# Altium footprint library smartlock.PcbLib: 17 footprints (part 1 of 2)
Each footprint in its own frame and in the unit in brackets; x right, y up, seen from the top. Pads: shape width x height; smd on the part's side, far side on the other; paste and mask are expansions set on the pad; w line width, h text height; cw(c..) or ccw(c..) is an arc to the next point about the centre after c.
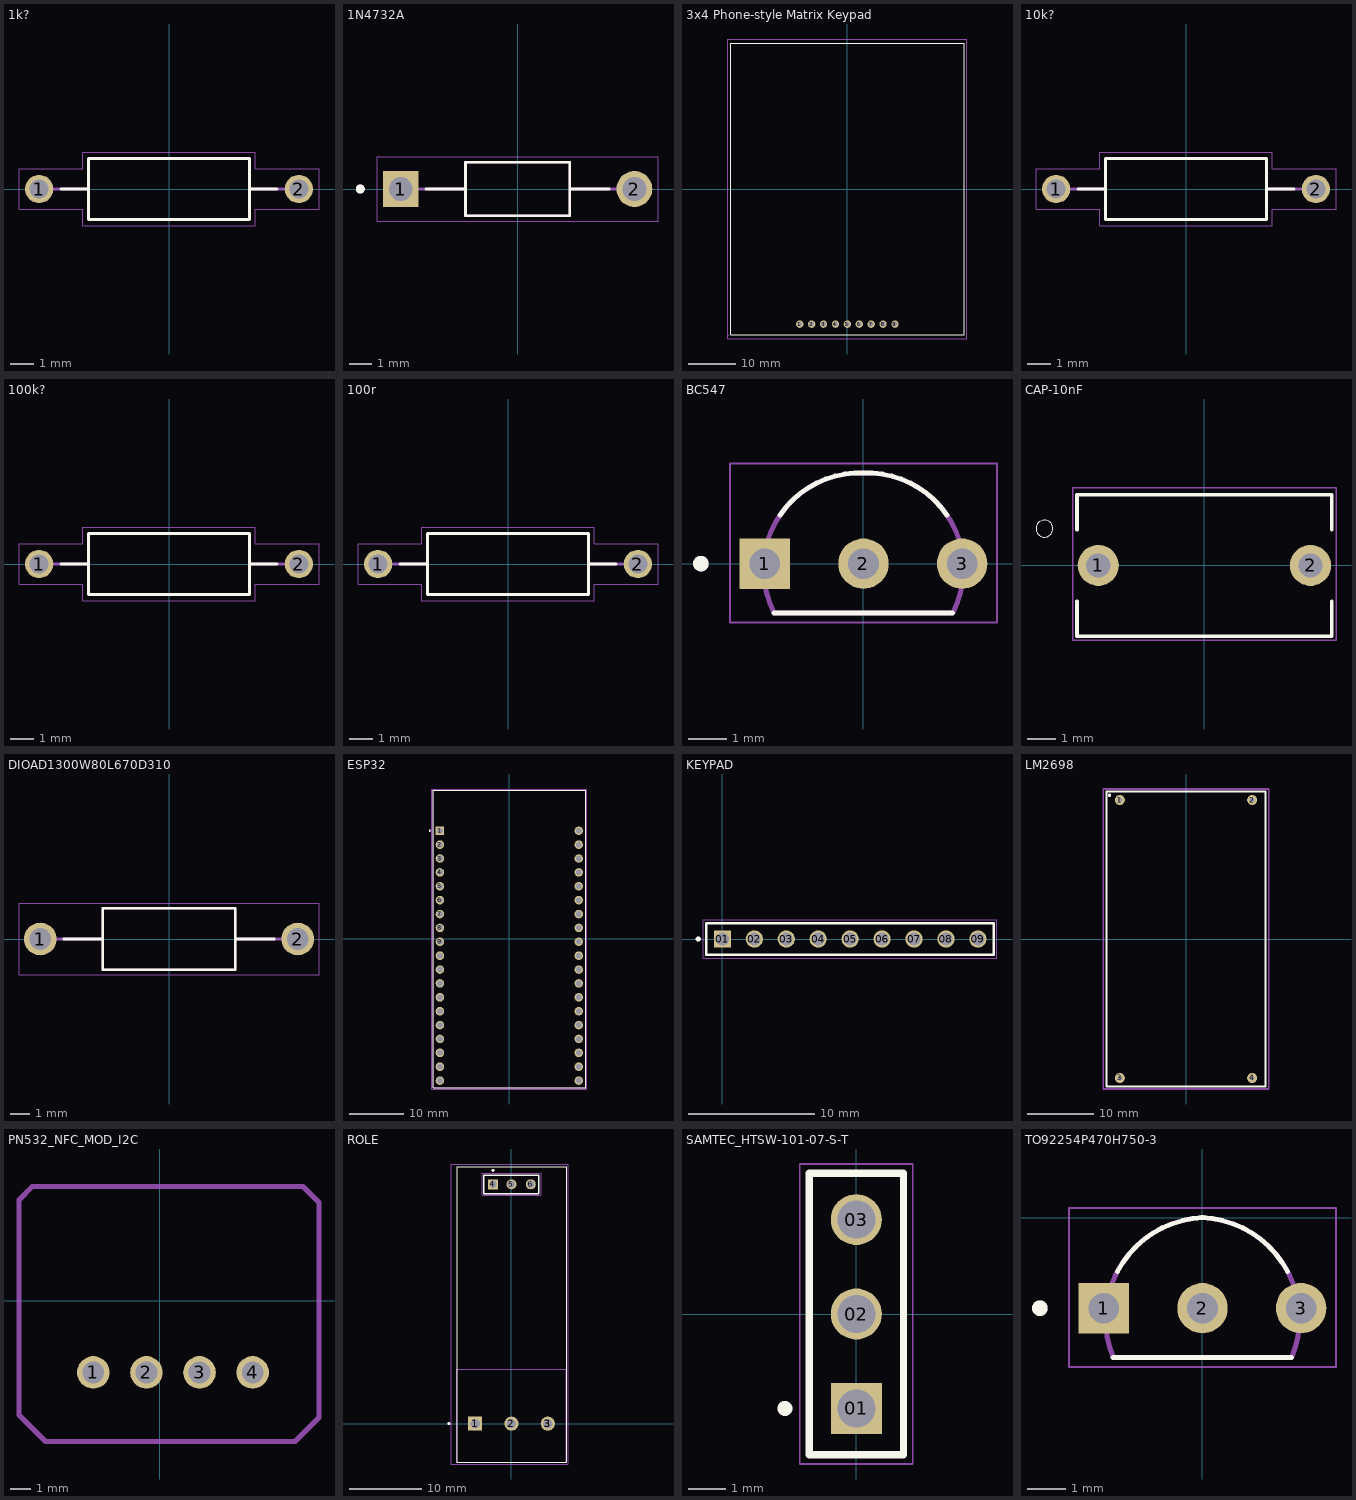
[diagram p0: the footprints below, top view; thin cyan lines are the x and y axes]

## 1k? [mm]
height 2.6
pads (2):
  round 1.2 hole 0.8: 1(-5.5,0) 2(5.5,0)
Top Overlay:
  lines w0.127: -4.58,0 -3.4,0 ; 4.58,0 3.4,0 ; -3.4,0 -3.4,-1.3 3.4,-1.3 3.4,0 ; -3.4,0 -3.4,1.3 3.4,1.3 3.4,0
Mechanical 13:
  lines w0.127: -4.9,0 -3.4,0 ; 4.9,0 3.4,0 ; -3.4,0 -3.4,-1.3 3.4,-1.3 3.4,0 ; -3.4,0 -3.4,1.3 3.4,1.3 3.4,0
Mechanical 15:
  lines w0.05: -6.35,-0.85 -6.35,0.85 -3.65,0.85 -3.65,1.55 3.65,1.55 3.65,0.85 6.35,0.85 6.35,-0.85 3.65,-0.85 3.65,-1.55 -3.65,-1.55 -3.65,-0.85 -6.35,-0.85
3D body "step_temp.STEP": height 2.4, standoff -26.95, extent -5.775,-1.2 5.775,1.2

## 1N4732A [mm] "Zener Diode 4.7 V 1 W ±5% Through Hole DO-41"
height 2.72
pads (2):
  rect 1.59x1.59 / inner round 1.59 / far side rect 1.59x1.59 hole 1.06: 1(-5.18,0)
  round 1.59 hole 1.06: 2(5.18,0)
Top Overlay:
  circle w0.2: c-6.975,0 r0.1
  lines w0.127: -4.065,0 -2.315,0 ; 4.065,0 2.315,0 ; -2.315,0 -2.315,-1.188 2.315,-1.188 2.315,0 ; -2.315,0 -2.315,1.188 2.315,1.188 2.315,0
Mechanical 13:
  circle w0.2: c-6.975,0 r0.1
  lines w0.127: -5.18,0 -2.315,0 ; 5.18,0 2.315,0 ; -2.315,0 -2.315,-1.188 2.315,-1.188 2.315,0 ; -2.315,0 -2.315,1.188 2.315,1.188 2.315,0
Mechanical 15:
  lines w0.05: -6.225,-1.438 -6.225,1.438 6.225,1.438 6.225,-1.438 -6.225,-1.438
3D body "step_temp.STEP": height 2.72, standoff -21.88, extent -5.288,-1.36 5.288,1.36

## 3x4 Phone-style Matrix Keypad [mm]
pads (9):
  round 1.56 hole 1.04: 1(-10.16,-28.829) 2(-7.62,-28.829) 3(-5.08,-28.829) 4(-2.54,-28.829) 5(0,-28.829) 6(2.54,-28.829) 7(5.08,-28.829) 8(7.62,-28.829) 9(10.16,-28.829)
Top Overlay:
  lines w0.254: -24.892,-31.115 24.892,-31.115 24.892,31.115 -24.892,31.115 -24.892,-31.115
Mechanical 15:
  lines w0.254: -25.654,-30.988 -25.4,-31.242 ; -25.5,-32 25.5,-32 25.5,32 -25.5,32 -25.5,-32
3D body "PCB Switch Matrix 3x4 v1.0.step": height 0.88, standoff -11.53, extent -26.949,-35.27 27.051,32.73

## 10k? [mm]
height 2.6
pads (2):
  round 1.2 hole 0.8: 1(-5.5,0) 2(5.5,0)
Top Overlay:
  lines w0.127: -4.58,0 -3.4,0 ; 4.58,0 3.4,0 ; -3.4,0 -3.4,-1.3 3.4,-1.3 3.4,0 ; -3.4,0 -3.4,1.3 3.4,1.3 3.4,0
Mechanical 13:
  lines w0.127: -4.9,0 -3.4,0 ; 4.9,0 3.4,0 ; -3.4,0 -3.4,-1.3 3.4,-1.3 3.4,0 ; -3.4,0 -3.4,1.3 3.4,1.3 3.4,0
Mechanical 15:
  lines w0.05: -6.35,-0.85 -6.35,0.85 -3.65,0.85 -3.65,1.55 3.65,1.55 3.65,0.85 6.35,0.85 6.35,-0.85 3.65,-0.85 3.65,-1.55 -3.65,-1.55 -3.65,-0.85 -6.35,-0.85
3D body "step_temp.STEP": height 2.4, standoff -26.95, extent -5.775,-1.2 5.775,1.2

## 100k? [mm]
height 2.6
pads (2):
  round 1.2 hole 0.8: 1(-5.5,0) 2(5.5,0)
Top Overlay:
  lines w0.127: -4.58,0 -3.4,0 ; 4.58,0 3.4,0 ; -3.4,0 -3.4,-1.3 3.4,-1.3 3.4,0 ; -3.4,0 -3.4,1.3 3.4,1.3 3.4,0
Mechanical 13:
  lines w0.127: -4.9,0 -3.4,0 ; 4.9,0 3.4,0 ; -3.4,0 -3.4,-1.3 3.4,-1.3 3.4,0 ; -3.4,0 -3.4,1.3 3.4,1.3 3.4,0
Mechanical 15:
  lines w0.05: -6.35,-0.85 -6.35,0.85 -3.65,0.85 -3.65,1.55 3.65,1.55 3.65,0.85 6.35,0.85 6.35,-0.85 3.65,-0.85 3.65,-1.55 -3.65,-1.55 -3.65,-0.85 -6.35,-0.85
3D body "step_temp.STEP": height 2.4, standoff -26.95, extent -5.775,-1.2 5.775,1.2

## 100r [mm]
height 2.6
pads (2):
  round 1.2 hole 0.8: 1(-5.5,0) 2(5.5,0)
Top Overlay:
  lines w0.127: -4.58,0 -3.4,0 ; 4.58,0 3.4,0 ; -3.4,0 -3.4,-1.3 3.4,-1.3 3.4,0 ; -3.4,0 -3.4,1.3 3.4,1.3 3.4,0
Mechanical 13:
  lines w0.127: -4.9,0 -3.4,0 ; 4.9,0 3.4,0 ; -3.4,0 -3.4,-1.3 3.4,-1.3 3.4,0 ; -3.4,0 -3.4,1.3 3.4,1.3 3.4,0
Mechanical 15:
  lines w0.05: -6.35,-0.85 -6.35,0.85 -3.65,0.85 -3.65,1.55 3.65,1.55 3.65,0.85 6.35,0.85 6.35,-0.85 3.65,-0.85 3.65,-1.55 -3.65,-1.55 -3.65,-0.85 -6.35,-0.85
3D body "step_temp.STEP": height 2.4, standoff -26.95, extent -5.775,-1.2 5.775,1.2

## BC547 [mm]
height 7.5
pads (3):
  rect 1.298x1.298 / inner round 1.298 / far side rect 1.298x1.298 hole 0.79: 1(-2.54,0)
  round 1.298 hole 0.79: 2(0,0) 3(2.54,0)
Top Overlay:
  circle w0.2: c-4.189,0 r0.1
  lines w0.127: -2.3,-1.27 2.3,-1.27 ; -2.152,1.247 cw(c-0.111,-0.13) 0.018,2.329 ; -0.018,2.329 cw(c0.111,-0.13) 2.152,1.247
Mechanical 13:
  circle w0.2: c-4.189,0 r0.1
  lines w0.127: -2.308,-1.254 cw(c-0.111,-0.134) 0.018,2.329 ; -2.3,-1.27 2.3,-1.27 ; -0.018,2.329 cw(c0.111,-0.134) 2.308,-1.254
Mechanical 15:
  lines w0.05: -3.439,-1.52 3.439,-1.52 3.439,2.58 -3.439,2.58 -3.439,-1.52
3D body "step_temp.STEP": height 8.09, standoff -9.01, extent -2.74,-1.27 2.74,2.33

## CAP-10nF [mm] "10nF"
pads (2):
  round 1.45 hole 0.85: 1(-3.75,0) 2(3.75,0)
Top Overlay:
  circle w0: c-5.65,1.3 r0.3
  lines w0.127: -4.5,-1.27 -4.5,-2.5 4.5,-2.5 4.5,-1.27 ; -4.5,1.27 -4.5,2.5 4.5,2.5 4.5,1.27
Mechanical 15:
  lines w0.05: -4.65,-2.65 4.65,-2.65 4.65,2.75 -4.65,2.75 -4.65,-2.65

## DIOAD1300W80L670D310 [mm]
pads (2):
  round 1.65 hole 1.1: 1(-6.5,0) 2(6.5,0)
Top Overlay:
  lines w0.127: -5.32,0 -3.35,0 ; 5.32,0 3.35,0 ; -3.35,0 -3.35,-1.55 3.35,-1.55 3.35,0 ; -3.35,0 -3.35,1.55 3.35,1.55 3.35,0
Mechanical 13:
  lines w0.127: -6.5,0 -3.35,0 ; 6.5,0 3.35,0 ; -3.35,0 -3.35,-1.55 3.35,-1.55 3.35,0 ; -3.35,0 -3.35,1.55 3.35,1.55 3.35,0
Mechanical 15:
  lines w0.05: -7.575,-1.8 7.575,-1.8 7.575,1.8 -7.575,1.8 -7.575,-1.8
3D body "step_temp.STEP": height 2.29, standoff -21.35, extent -4.401,-1.145 4.401,1.145

## ESP32 [mm]
pads (38):
  rect 1.56x1.56 / inner round 1.56 / far side rect 1.56x1.56 hole 1.04: 1(-12.7,19.76)
  round 1.56 hole 1.04: 2(-12.7,17.22) 3(-12.7,14.68) 4(-12.7,12.14) 5(-12.7,9.6) 6(-12.7,7.06) 7(-12.7,4.52) 8(-12.7,1.98) 9(-12.7,-0.56) 10(-12.7,-3.1) 11(-12.7,-5.64) 12(-12.7,-8.18) 13(-12.7,-10.72) 14(-12.7,-13.26) 15(-12.7,-15.8) 16(-12.7,-18.34) 17(-12.7,-20.88) 18(-12.7,-23.42) 19(-12.7,-25.96) 20(12.7,-25.96) 21(12.7,-23.42) 22(12.7,-20.88) 23(12.7,-18.34) 24(12.7,-15.8) 25(12.7,-13.26) 26(12.7,-10.72) 27(12.7,-8.18) 28(12.7,-5.64) 29(12.7,-3.1) 30(12.7,-0.56) 31(12.7,1.98) 32(12.7,4.52) 33(12.7,7.06) 34(12.7,9.6) 35(12.7,12.14) 36(12.7,14.68) 37(12.7,17.22) 38(12.7,19.76)
Top Overlay:
  circle w0.2: c-14.6,19.76 r0.1
  lines w0.127: -13.95,-27.25 -13.95,27.15 13.95,27.15 13.95,-27.25 -13.95,-27.25
Mechanical 13:
  circle w0.2: c-14.6,19.76 r0.1
  lines w0.127: -13.95,-27.25 13.95,-27.25 13.95,27.15 -13.95,27.15 -13.95,-27.25
Mechanical 15:
  lines w0.05: -14.2,-27.5 14.2,-27.5 14.2,27.4 -14.2,27.4 -14.2,-27.5
3D body "step_temp.STEP": height 6.69, standoff -6, extent -13.97,-27.9 13.97,27.2

## KEYPAD [mm]
pads (9):
  rect 1.37x1.37 / inner round 1.37 / far side rect 1.37x1.37 hole 1.02: 01(0,0)
  round 1.37 hole 1.02: 02(2.54,0) 03(5.08,0) 04(7.62,0) 05(10.16,0) 06(12.7,0) 07(15.24,0) 08(17.78,0) 09(20.32,0)
Top Overlay:
  circle w0.2: c-1.92,0 r0.1
  lines w0.2: -1.27,-1.27 21.59,-1.27 21.59,1.27 -1.27,1.27 -1.27,-1.27
Mechanical 13:
  circle w0.2: c-1.92,0 r0.1
  lines w0.1: -1.27,-1.27 21.59,-1.27 21.59,1.27 -1.27,1.27 -1.27,-1.27
Mechanical 15:
  lines w0.05: -1.52,-1.52 21.84,-1.52 21.84,1.52 -1.52,1.52 -1.52,-1.52

## LM2698 [mil]
pads (4):
  round 60 hole 30: 1(-393.7,826.77) 2(393.7,826.77) 3(-393.7,-826.77) 4(393.7,-826.77)
Top Overlay:
  lines w10: -450.53,852.76 cw(c-455,855) -450.47,857.11 ; -472.5,-877.5 472.5,-877.5 472.5,877.5 -472.5,877.5 -472.5,-877.5
Mechanical 15:
  lines w10: -492.5,-892.5 492.5,-892.5 492.5,892.5 -492.5,892.5 -492.5,-892.5

## PN532_NFC_MOD_I2C [mm]
pads (4):
  round 1.56 hole 1.04: 1(-3.175,-3.429) 2(-0.635,-3.429) 3(1.905,-3.429) 4(4.445,-3.429)
Mechanical 15:
  lines w0.254: -6.731,-5.461 -5.461,-6.731 6.477,-6.731 7.62,-5.588 7.62,4.699 6.858,5.461 -5.588,5.461 -6.096,5.461 -6.731,4.826 -6.731,-5.461
3D body "User Library-PN532_NFC_Assembly.STEP": height 6.45, standoff -4.6, extent -19.819,-10.047 20.581,32.653

## ROLE [mm]
pads (7):
  rect 1.95x1.95 hole 1.3: 1(-5,0)
  round 1.95 hole 1.3: 2(0,0) 3(5,0) 3(5,0)
  rect 1.37x1.37 / inner round 1.37 / far side rect 1.37x1.37 hole 1.02: 4(-2.54,32.9)
  round 1.37 hole 1.02: 5(0,32.9) 6(2.66,32.9)
Top Overlay:
  circle w0.2: c-8.6,0 r0.1
  circle w0.2: c-2.54,34.813 r0.1
  lines w0.127: -7.5,35.306 -7.5,-5.3 7.5,-5.3 7.5,35.306 ; -7.5,35.34 7.5,35.34
  lines w0.2: -3.785,31.585 -3.785,34.163 3.785,34.163 3.785,31.585 -3.785,31.585
Mechanical 13:
  circle w0.2: c-8.6,0 r0.1
  circle w0.2: c-2.54,34.813 r0.1
  lines w0.1: -3.785,31.623 3.785,31.623 3.785,34.163 -3.785,34.163 -3.785,31.623
  lines w0.127: -7.5,-5.3 7.5,-5.3 7.5,7.5 -7.5,7.5 -7.5,-5.3
Mechanical 15:
  lines w0.05: -8.32,35.687 -8.32,-5.55 7.75,-5.55 7.75,35.687 ; -8.32,35.69 -4.303,35.69 3.732,35.69 7.75,35.69 ; 4.035,31.373 -4.035,31.373 -4.035,34.413 4.035,34.413 ; 4.064,31.377 4.064,34.417

## SAMTEC_HTSW-101-07-S-T [mm]
pads (3):
  rect 1.37x1.37 / inner round 1.37 / far side rect 1.37x1.37 hole 1.02: 01(0,-2.54)
  round 1.37 hole 1.02: 02(0,0) 03(0,2.54)
Top Overlay:
  circle w0.2: c-1.92,-2.54 r0.1
  lines w0.2: -1.27,-3.785 1.27,-3.785 1.27,3.785 -1.27,3.785 -1.27,-3.785
Mechanical 13:
  circle w0.2: c-1.92,-2.54 r0.1
  lines w0.1: -1.27,-3.785 1.27,-3.785 1.27,3.785 -1.27,3.785 -1.27,-3.785
Mechanical 15:
  lines w0.05: -1.52,-4.035 1.52,-4.035 1.52,4.035 -1.52,4.035 -1.52,-4.035

## TO92254P470H750-3 [mm]
height 7.5
pads (3):
  rect 1.298x1.298 / inner round 1.298 / far side rect 1.298x1.298 hole 0.79: 1(-2.54,-2.33)
  round 1.298 hole 0.79: 2(0,-2.33) 3(2.54,-2.33)
Top Overlay:
  circle w0.2: c-4.189,-2.33 r0.1
  lines w0.127: -2.3,-3.6 2.3,-3.6 ; -2.19,-1.381 cw(c0.112,-2.605) 0.021,0.001 ; -0.021,0.001 cw(c-0.112,-2.605) 2.19,-1.381
Mechanical 13:
  circle w0.2: c-4.189,-2.33 r0.1
  lines w0.127: -2.307,-3.582 cw(c0.11,-2.605) 0.019,0.001 ; -2.3,-3.6 2.3,-3.6 ; -0.019,0.001 cw(c-0.11,-2.605) 2.307,-3.582
Mechanical 15:
  lines w0.05: -3.439,-3.85 -3.439,0.252 3.439,0.252 3.439,-3.85 -3.439,-3.85
3D body "step_temp.STEP": height 8.09, standoff -9.01, extent -2.667,-3.556 2.813,0.044